# Altium footprint library QFN65P600X600X100_HS-29L.PcbLib: 1 footprints
Each footprint in its own frame and in the unit in brackets; x right, y up, seen from the top. Pads: shape width x height; smd on the part's side, far side on the other; paste and mask are expansions set on the pad; w line width, h text height; cw(c..) or ccw(c..) is an arc to the next point about the centre after c.
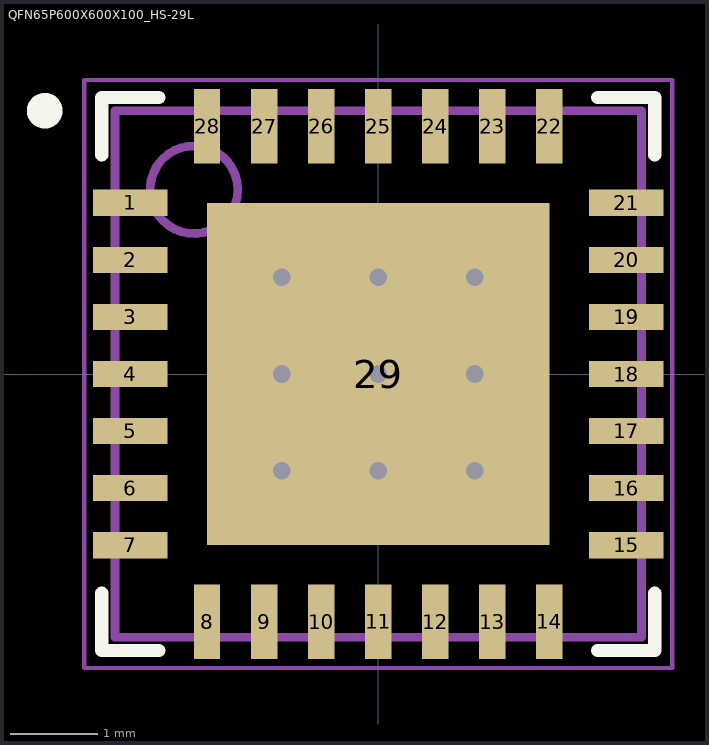
[diagram p0: the footprint, top view; thin cyan lines are the x and y axes]

## QFN65P600X600X100_HS-29L [mm] "QFN, 28-Leads, Body 6.00x6.00mm, Pitch 0.65mm, Thermal Pad 3.90x3.90mm, IPC High Density"
height 1
pads (29):
  rect 0.85x0.3 smd: 1(-2.825,1.95) 2(-2.825,1.3) 3(-2.825,0.65) 4(-2.825,0) 5(-2.825,-0.65) 6(-2.825,-1.3) 7(-2.825,-1.95) 15(2.825,-1.95) 16(2.825,-1.3) 17(2.825,-0.65) 18(2.825,0) 19(2.825,0.65) 20(2.825,1.3) 21(2.825,1.95)
  rect 0.3x0.85 smd: 8(-1.95,-2.825) 9(-1.3,-2.825) 10(-0.65,-2.825) 11(0,-2.825) 12(0.65,-2.825) 13(1.3,-2.825) 14(1.95,-2.825) 22(1.95,2.825) 23(1.3,2.825) 24(0.65,2.825) 25(0,2.825) 26(-0.65,2.825) 27(-1.3,2.825) 28(-1.95,2.825)
  rect 3.9x3.9 smd: 29(0,0)
via 1.1,-1.1 diameter 0.4 hole 0.2
via 0,-1.1 diameter 0.4 hole 0.2
via -1.1,-1.1 diameter 0.4 hole 0.2
via 1.1,0 diameter 0.4 hole 0.2
via 0,0 diameter 0.4 hole 0.2
via -1.1,0 diameter 0.4 hole 0.2
via 1.1,1.1 diameter 0.4 hole 0.2
via 0,1.1 diameter 0.4 hole 0.2
via -1.1,1.1 diameter 0.4 hole 0.2
Top Overlay:
  circle w0.203: c-3.8,3 r0.102
  lines w0.152: -3.15,-2.5 -3.15,-3.15 -2.5,-3.15 ; -3.15,2.5 -3.15,3.15 -2.5,3.15 ; 2.5,-3.15 3.15,-3.15 3.15,-2.5 ; 2.5,3.15 3.15,3.15 3.15,2.5
Mechanical 13:
  circle w0.1: c-2.1,2.1 r0.5
  lines w0.1: -3,-3 3,-3 3,3 -3,3 -3,-3
Mechanical 15:
  lines w0.05: -3.35,-3.35 3.35,-3.35 3.35,3.35 -3.35,3.35 -3.35,-3.35
  lines w0.1: -0.5,0 0.5,0 ; 0,-0.5 0,0.5
3D body: height 1.02, standoff -0.08, extent -3,-3 3,3